# Altium integrated library Infineon_Power_MOSFET.IntLib: 1448 symbols (part 42 of 47)
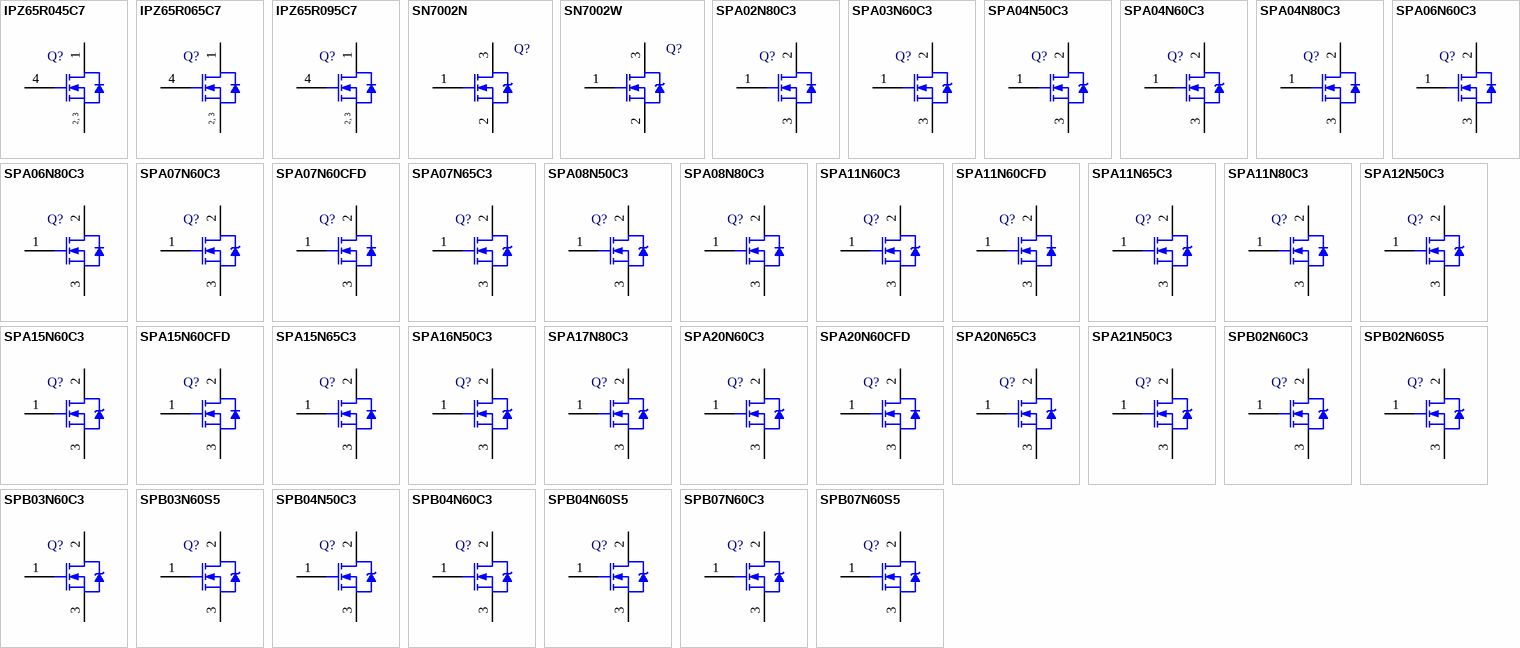
[diagram p78: symbols IPZ65R045C7 to SPB07N60S5]

## SPA07N60CFD
designator Q?
N-Channel CoolMOS Power-Transistor, 600 V VDS, 6.6 A ID, -55 to 150 degC, PG-TO220-3-31, Tube, Green; Manufacturer: Infineon; PartNumber: SPA07N60CFD; Green: TRUE; ID (max): 6.6 A; IDpuls (max): 17 A; Polarity: N; Ptot (max): 32 W; QG: 35 nC; RDS (on) (max): 700 mOhm; Rth: 3.9 K/W; RthJA (max): 62 K/W; VDS (max): 600 V; VGS(th) (max): 5 V; VGS(th) (min): 3 V; DatasheetVersion: Rev. 1.0; PackageVersion: Jan-07; PackageReference: PG-TO220-3-31; PackageDescription: 3-Pin Plastic (Green) Transistor Single Outline Package, 10.5 x 9.68 mm Body, 2.54 mm Pitch; Supplier 1: Mouser; Supplier Part Number 1: 726-SPA07N60CFD; Supplier 2: Newark; Supplier Part Number 2: 33P8194; Supplier 3: Farnell; Supplier Part Number 3: 1664093; Supplier 4: Digi-Key; Supplier Part Number 4: SPA07N60CFD-ND; Halogen-free: TRUE; Packing: Tube; RthJC (max): 3.9 K/W; Technology: CoolMOS CFD; Mounting Technology: Through Hole; ComponentLink1Description: Manufacturer URL; ComponentLink1URL: http://www.infineon.com/; ComponentLink2Description: Datasheet; ComponentLink2URL: http://www.infineon.com/dgdl/SPA07N60CFD_rev1.0.pdf?folderId=db3a304412b407950112b408e8c90004&fileId=db3a304412b407950112b42e89c249e7; ComponentLink3Description: Package Specification; ComponentLink3URL: http://www.infineon.com/dgdl/IPA093N06N3_Rev2+0.pdf?folderId=db3a30431441fb5d01148ca9f1be0e77&fileId=db3a3043284aacd8012882bf84115438
footprint INF-PG-TO220-3-31 (FM, 3-Leads, Body 10.5x4.7mm, Pitch 2.54mm)
pins: 1 GATE, 2 DRAIN, 3 SOURCE

## SPA07N65C3
designator Q?
N-Channel CoolMOS Power-Transistor, 650 V VDS, 7.3 A ID, -55 to 150 degC, PG-TO220-3-31, Tube, Green; Manufacturer: Infineon; PartNumber: SPA07N65C3; Green: TRUE; ID (max): 7.3 A; IDpuls (max): 21.9 A; Polarity: N; Ptot (max): 32 W; QG: 21 nC; RDS (on) (max): 600 mOhm; Rth: 3.9 K/W; RthJA (max): 80 K/W; VDS (max): 650 V; VGS(th) (max): 3.9 V; VGS(th) (min): 2.1 V; DatasheetVersion: Rev. 1.92; PackageVersion: Jan-07; PackageReference: PG-TO220-3-31; PackageDescription: 3-Pin Plastic (Green) Transistor Single Outline Package, 10.5 x 9.68 mm Body, 2.54 mm Pitch; Supplier 1: Mouser; Supplier Part Number 1: 726-SPA07N65C3; Supplier 2: Digi-Key; Supplier Part Number 2: SPA07N65C3IN-ND; Halogen-free: TRUE; Packing: Tube; RthJC (max): 3.9 K/W; Technology: CoolMOS C3; Mounting Technology: Through Hole; ComponentLink1Description: Manufacturer URL; ComponentLink1URL: http://www.infineon.com/; ComponentLink2Description: Datasheet; ComponentLink2URL: http://www.infineon.com/dgdl/SPP_A_I07N65C3_Rev%5B1.92.pdf?folderId=db3a3043163797a6011637d4e912003c&fileId=db3a3043163797a6011637d56b30003d; ComponentLink3Description: Package Specification; ComponentLink3URL: http://www.infineon.com/dgdl/IPA093N06N3_Rev2+0.pdf?folderId=db3a30431441fb5d01148ca9f1be0e77&fileId=db3a3043284aacd8012882bf84115438
footprint INF-PG-TO220-3-31 (FM, 3-Leads, Body 10.5x4.7mm, Pitch 2.54mm)
pins: 1 GATE, 2 DRAIN, 3 SOURCE

## SPA08N50C3
designator Q?
N-Channel CoolMOS Power-Transistor, 500 V VDS, 7.6 A ID, -55 to 150 degC, PG-TO220-3-31, Tube, Green; Manufacturer: Infineon; PartNumber: SPA08N50C3; Green: TRUE; ID (max): 7.6 A; IDpuls (max): 22.8 A; Polarity: N; Ptot (max): 32 W; QG: 32 nC; RDS (on) (max): 600 mOhm; Rth: 3.9 K/W; RthJA (max): 80 K/W; VDS (max): 500 V; VGS(th) (max): 3.9 V; VGS(th) (min): 2.1 V; DatasheetVersion: Rev. 2.91; PackageVersion: Jan-07; PackageReference: PG-TO220-3-31; PackageDescription: 3-Pin Plastic (Green) Transistor Single Outline Package, 10.5 x 9.68 mm Body, 2.54 mm Pitch; Supplier 1: Mouser; Supplier Part Number 1: 726-SPA08N50C3; Supplier 2: Newark; Supplier Part Number 2: 62M0116; Supplier 3: Farnell; Supplier Part Number 3: 1471769; Supplier 4: Digi-Key; Supplier Part Number 4: SPA08N50C3IN-ND; Halogen-free: TRUE; Packing: Tube; RthJC (max): 3.9 K/W; Technology: CoolMOS C3; Mounting Technology: Through Hole; ComponentLink1Description: Manufacturer URL; ComponentLink1URL: http://www.infineon.com/; ComponentLink2Description: Datasheet; ComponentLink2URL: http://www.infineon.com/dgdl/SPP_I_A08N50C3_Rev.2.91.pdf?folderId=db3a3043163797a6011637e7be4f0060&fileId=db3a3043163797a6011637ea8fa3006d; ComponentLink3Description: Package Specification; ComponentLink3URL: http://www.infineon.com/dgdl/IPA093N06N3_Rev2+0.pdf?folderId=db3a30431441fb5d01148ca9f1be0e77&fileId=db3a3043284aacd8012882bf84115438
footprint INF-PG-TO220-3-31 (FM, 3-Leads, Body 10.5x4.7mm, Pitch 2.54mm)
pins: 1 GATE, 2 DRAIN, 3 SOURCE

## SPA08N80C3
designator Q?
N-Channel CoolMOS Power-Transistor, 800 V VDS, 8 A ID, -55 to 150 degC, PG-TO220-3-31, Tube, Green; Manufacturer: Infineon; PartNumber: SPA08N80C3; Green: TRUE; ID (max): 8 A; IDpuls (max): 24 A; Polarity: N; Ptot (max): 40 W; QG: 45 nC; RDS (on) (max): 650 mOhm; Rth: 3.8 K/W; RthJA (max): 80 K/W; VDS (max): 800 V; VGS(th) (max): 3.9 V; VGS(th) (min): 2.1 V; DatasheetVersion: Rev. 3.1; PackageVersion: Jan-07; PackageReference: PG-TO220-3-31; PackageDescription: 3-Pin Plastic (Green) Transistor Single Outline Package, 10.5 x 9.68 mm Body, 2.54 mm Pitch; Supplier 1: Mouser; Supplier Part Number 1: 726-SPA08N80C3; Supplier 2: Newark; Supplier Part Number 2: 98K0551; Supplier 3: Farnell; Supplier Part Number 3: 1095691; Supplier 4: Digi-Key; Supplier Part Number 4: SPA08N80C3IN-ND; Halogen-free: TRUE; Packing: Tube; RthJC (max): 3.8 K/W; Technology: CoolMOS C3; Mounting Technology: Through Hole; ComponentLink1Description: Manufacturer URL; ComponentLink1URL: http://www.infineon.com/; ComponentLink2Description: Datasheet; ComponentLink2URL: http://www.infineon.com/dgdl/SPA08N80C3_rev3.1+new.pdf?folderId=db3a3043163797a6011638491238009b&fileId=db3a3043163797a6011638595c9600e0; ComponentLink3Description: Package Specification; ComponentLink3URL: http://www.infineon.com/dgdl/IPA093N06N3_Rev2+0.pdf?folderId=db3a30431441fb5d01148ca9f1be0e77&fileId=db3a3043284aacd8012882bf84115438
footprint INF-PG-TO220-3-31 (FM, 3-Leads, Body 10.5x4.7mm, Pitch 2.54mm)
pins: 1 GATE, 2 DRAIN, 3 SOURCE

## SPA11N60C3
designator Q?
N-Channel CoolMOS Power-Transistor, 600 V VDS, 11 A ID, -55 to 150 degC, PG-TO220-3-31, Tube, Green; Manufacturer: Infineon; PartNumber: SPA11N60C3; Green: TRUE; ID (max): 11 A; IDpuls (max): 33 A; Polarity: N; Ptot (max): 33 W; QG: 45 nC; RDS (on) (max): 380 mOhm; Rth: 3.8 K/W; RthJA (max): 80 K/W; VDS (max): 600 V; VGS(th) (max): 3.9 V; VGS(th) (min): 2.1 V; DatasheetVersion: Rev. 3.2; PackageVersion: Jan-07; PackageReference: PG-TO220-3-31; PackageDescription: 3-Pin Plastic (Green) Transistor Single Outline Package, 10.5 x 9.68 mm Body, 2.54 mm Pitch; Supplier 1: Mouser; Supplier Part Number 1: 726-SPA11N60C3; Supplier 2: Newark; Supplier Part Number 2: 62M0117; Supplier 3: Farnell; Supplier Part Number 3: 1471770; Supplier 4: Digi-Key; Supplier Part Number 4: SPA11N60C3IN-ND; Halogen-free: TRUE; Packing: Tube; RthJC (max): 3.8 K/W; Technology: CoolMOS C3; Mounting Technology: Through Hole; ComponentLink1Description: Manufacturer URL; ComponentLink1URL: http://www.infineon.com/; ComponentLink2Description: Datasheet; ComponentLink2URL: http://www.infineon.com/dgdl/SPP_I_A11N60C3_E8185_Rev.3.2.pdf?folderId=db3a3043163797a6011638933eda014b&fileId=db3a3043163797a6011638a2fdee01a3; ComponentLink3Description: Package Specification; ComponentLink3URL: http://www.infineon.com/dgdl/IPA093N06N3_Rev2+0.pdf?folderId=db3a30431441fb5d01148ca9f1be0e77&fileId=db3a3043284aacd8012882bf84115438
footprint INF-PG-TO220-3-31 (FM, 3-Leads, Body 10.5x4.7mm, Pitch 2.54mm)
pins: 1 GATE, 2 DRAIN, 3 SOURCE

## SPA11N60CFD
designator Q?
N-Channel CoolMOS Power-Transistor, 600 V VDS, 11 A ID, -55 to 150 degC, PG-TO220-3-31, Tube, Green; Manufacturer: Infineon; PartNumber: SPA11N60CFD; Green: TRUE; ID (max): 11 A; IDpuls (max): 28 A; Polarity: N; Ptot (max): 33 W; QG: 48 nC; RDS (on) (max): 440 mOhm; Rth: 3.8 K/W; RthJA (max): 62 K/W; VDS (max): 600 V; VGS(th) (max): 5 V; VGS(th) (min): 3 V; DatasheetVersion: Rev. 1.4; PackageVersion: Jan-07; PackageReference: PG-TO220-3-31; PackageDescription: 3-Pin Plastic (Green) Transistor Single Outline Package, 10.5 x 9.68 mm Body, 2.54 mm Pitch; Supplier 1: Mouser; Supplier Part Number 1: 726-SPA11N60CFD; Supplier 2: Newark; Supplier Part Number 2: 33P8195; Supplier 3: Farnell; Supplier Part Number 3: 1664094; Supplier 4: Digi-Key; Supplier Part Number 4: SPA11N60CFD-ND; Halogen-free: TRUE; Packing: Tube; RthJC (max): 3.8 K/W; Technology: CoolMOS CFD; Mounting Technology: Through Hole; ComponentLink1Description: Manufacturer URL; ComponentLink1URL: http://www.infineon.com/; ComponentLink2Description: Datasheet; ComponentLink2URL: http://www.infineon.com/dgdl/SPA11N60CFD_rev1.4.pdf?folderId=db3a304412b407950112b408e8c90004&fileId=db3a304412b407950112b42c0b7e4659; ComponentLink3Description: Package Specification; ComponentLink3URL: http://www.infineon.com/dgdl/IPA093N06N3_Rev2+0.pdf?folderId=db3a30431441fb5d01148ca9f1be0e77&fileId=db3a3043284aacd8012882bf84115438
footprint INF-PG-TO220-3-31 (FM, 3-Leads, Body 10.5x4.7mm, Pitch 2.54mm)
pins: 1 GATE, 2 DRAIN, 3 SOURCE

## SPA11N65C3
designator Q?
N-Channel CoolMOS Power-Transistor, 650 V VDS, 11 A ID, -55 to 150 degC, PG-TO220-3-31, Tube, Green; Manufacturer: Infineon; PartNumber: SPA11N65C3; Green: TRUE; ID (max): 11 A; IDpuls (max): 33 A; Polarity: N; Ptot (max): 33 W; QG: 45 nC; RDS (on) (max): 380 mOhm; Rth: 3.8 K/W; RthJA (max): 80 K/W; VDS (max): 650 V; VGS(th) (max): 3.9 V; VGS(th) (min): 2.1 V; DatasheetVersion: Rev. 2.91; PackageVersion: Jan-07; PackageReference: PG-TO220-3-31; PackageDescription: 3-Pin Plastic (Green) Transistor Single Outline Package, 10.5 x 9.68 mm Body, 2.54 mm Pitch; Supplier 1: Mouser; Supplier Part Number 1: 726-SPA11N65C3; Supplier 2: Newark; Supplier Part Number 2: 62M0118; Supplier 3: Farnell; Supplier Part Number 3: 1471771; Supplier 4: Digi-Key; Supplier Part Number 4: SPA11N65C3IN-ND; Halogen-free: TRUE; Packing: Tube; RthJC (max): 3.8 K/W; Technology: CoolMOS C3; Mounting Technology: Through Hole; ComponentLink1Description: Manufacturer URL; ComponentLink1URL: http://www.infineon.com/; ComponentLink2Description: Datasheet; ComponentLink2URL: http://www.infineon.com/dgdl/SPP_A_I11N65C3_Rev.2.91.pdf?folderId=db3a3043163797a6011637d4e912003c&fileId=db3a3043163797a6011637d98e5e0049; ComponentLink3Description: Package Specification; ComponentLink3URL: http://www.infineon.com/dgdl/IPA093N06N3_Rev2+0.pdf?folderId=db3a30431441fb5d01148ca9f1be0e77&fileId=db3a3043284aacd8012882bf84115438
footprint INF-PG-TO220-3-31 (FM, 3-Leads, Body 10.5x4.7mm, Pitch 2.54mm)
pins: 1 GATE, 2 DRAIN, 3 SOURCE

## SPA11N80C3
designator Q?
N-Channel CoolMOS Power-Transistor, 800 V VDS, 11 A ID, -55 to 150 degC, PG-TO220-3-31, Tube, Green; Manufacturer: Infineon; PartNumber: SPA11N80C3; Green: TRUE; ID (max): 11 A; IDpuls (max): 33 A; Polarity: N; Ptot (max): 41 W; QG: 64 nC; RDS (on) (max): 450 mOhm; Rth: 3.7 K/W; RthJA (max): 80 K/W; VDS (max): 800 V; VGS(th) (max): 3.9 V; VGS(th) (min): 2.1 V; DatasheetVersion: Rev. 2.91; PackageVersion: Jan-07; PackageReference: PG-TO220-3-31; PackageDescription: 3-Pin Plastic (Green) Transistor Single Outline Package, 10.5 x 9.68 mm Body, 2.54 mm Pitch; Supplier 1: Mouser; Supplier Part Number 1: 726-SPA11N80C3; Supplier 2: Newark; Supplier Part Number 2: 98K0552; Supplier 3: Farnell; Supplier Part Number 3: 1095692; Supplier 4: Digi-Key; Supplier Part Number 4: SPA11N80C3IN-ND; Halogen-free: TRUE; Packing: Tube; RthJC (max): 3.7 K/W; Technology: CoolMOS C3; Mounting Technology: Through Hole; ComponentLink1Description: Manufacturer URL; ComponentLink1URL: http://www.infineon.com/; ComponentLink2Description: Datasheet; ComponentLink2URL: http://www.infineon.com/dgdl/SPA11N80C3_rev2.91_a.pdf?folderId=db3a3043163797a6011638491238009b&fileId=db3a3043163797a60116385b2fcc00ec; ComponentLink3Description: Package Specification; ComponentLink3URL: http://www.infineon.com/dgdl/IPA093N06N3_Rev2+0.pdf?folderId=db3a30431441fb5d01148ca9f1be0e77&fileId=db3a3043284aacd8012882bf84115438
footprint INF-PG-TO220-3-31 (FM, 3-Leads, Body 10.5x4.7mm, Pitch 2.54mm)
pins: 1 GATE, 2 DRAIN, 3 SOURCE

## SPA12N50C3
designator Q?
N-Channel CoolMOS Power-Transistor, 500 V VDS, 11.6 A ID, -55 to 150 degC, PG-TO220-3-31, Tube, Green; Manufacturer: Infineon; PartNumber: SPA12N50C3; Green: TRUE; ID (max): 11.6 A; IDpuls (max): 34.8 A; Polarity: N; Ptot (max): 33 W; QG: 49 nC; RDS (on) (max): 380 mOhm; Rth: 3.8 K/W; RthJA (max): 80 K/W; VDS (max): 500 V; VGS(th) (max): 3.9 V; VGS(th) (min): 2.1 V; DatasheetVersion: Rev. 3.1; PackageVersion: Jan-07; PackageReference: PG-TO220-3-31; PackageDescription: 3-Pin Plastic (Green) Transistor Single Outline Package, 10.5 x 9.68 mm Body, 2.54 mm Pitch; Supplier 1: Mouser; Supplier Part Number 1: 726-SPA12N50C3; Supplier 2: Farnell; Supplier Part Number 2: 1471772; Supplier 3: Digi-Key; Supplier Part Number 3: SPA12N50C3IN-ND; Halogen-free: TRUE; Packing: Tube; RthJC (max): 3.8 K/W; Technology: CoolMOS C3; Mounting Technology: Through Hole; ComponentLink1Description: Manufacturer URL; ComponentLink1URL: http://www.infineon.com/; ComponentLink2Description: Datasheet; ComponentLink2URL: http://www.infineon.com/dgdl/SPP_I_A12N50C3_Rev.3.1.pdf?folderId=db3a3043163797a6011637e7be4f0060&fileId=db3a3043163797a6011637ecbecd0079; ComponentLink3Description: Package Specification; ComponentLink3URL: http://www.infineon.com/dgdl/IPA093N06N3_Rev2+0.pdf?folderId=db3a30431441fb5d01148ca9f1be0e77&fileId=db3a3043284aacd8012882bf84115438
footprint INF-PG-TO220-3-31 (FM, 3-Leads, Body 10.5x4.7mm, Pitch 2.54mm)
pins: 1 GATE, 2 DRAIN, 3 SOURCE

## SPA15N60C3
designator Q?
N-Channel CoolMOS Power-Transistor, 600 V VDS, 15 A ID, -55 to 150 degC, PG-TO220-3-31, Tube, Green; Manufacturer: Infineon; PartNumber: SPA15N60C3; Green: TRUE; ID (max): 15 A; IDpuls (max): 45 A; Polarity: N; Ptot (max): 34 W; QG: 63 nC; RDS (on) (max): 280 mOhm; Rth: 3.7 K/W; RthJA (max): 80 K/W; VDS (max): 600 V; VGS(th) (max): 3.9 V; VGS(th) (min): 2.1 V; DatasheetVersion: Rev. 3.2; PackageVersion: Jan-07; PackageReference: PG-TO220-3-31; PackageDescription: 3-Pin Plastic (Green) Transistor Single Outline Package, 10.5 x 9.68 mm Body, 2.54 mm Pitch; Supplier 1: Mouser; Supplier Part Number 1: 726-SPA15N60C3; Supplier 2: Farnell; Supplier Part Number 2: 1471773; Supplier 3: Digi-Key; Supplier Part Number 3: SPA15N60C3IN-ND; Halogen-free: TRUE; Packing: Tube; RthJC (max): 3.7 K/W; Technology: CoolMOS C3; Mounting Technology: Through Hole; ComponentLink1Description: Manufacturer URL; ComponentLink1URL: http://www.infineon.com/; ComponentLink2Description: Datasheet; ComponentLink2URL: http://www.infineon.com/dgdl/SPP_I_A15N60C3_Rev%5B1%5D.3.2+new.pdf?folderId=db3a3043163797a6011638933eda014b&fileId=db3a3043163797a6011638a530bb01af; ComponentLink3Description: Package Specification; ComponentLink3URL: http://www.infineon.com/dgdl/IPA093N06N3_Rev2+0.pdf?folderId=db3a30431441fb5d01148ca9f1be0e77&fileId=db3a3043284aacd8012882bf84115438
footprint INF-PG-TO220-3-31 (FM, 3-Leads, Body 10.5x4.7mm, Pitch 2.54mm)
pins: 1 GATE, 2 DRAIN, 3 SOURCE

## SPA15N60CFD
designator Q?
N-Channel CoolMOS Power-Transistor, 600 V VDS, 13.4 A ID, -55 to 150 degC, PG-TO220-3-31, Tube, Green; Manufacturer: Infineon; PartNumber: SPA15N60CFD; Green: TRUE; ID (max): 13.4 A; IDpuls (max): 33 A; Polarity: N; Ptot (max): 34 W; QG: 63 nC; RDS (on) (max): 330 mOhm; Rth: 3.7 K/W; RthJA (max): 62 K/W; VDS (max): 600 V; VGS(th) (max): 5 V; VGS(th) (min): 3 V; DatasheetVersion: Rev. 1.0; PackageVersion: Jan-07; PackageReference: PG-TO220-3-31; PackageDescription: 3-Pin Plastic (Green) Transistor Single Outline Package, 10.5 x 9.68 mm Body, 2.54 mm Pitch; Supplier 1: Mouser; Supplier Part Number 1: 726-SPA15N60CFD; Supplier 2: Digi-Key; Supplier Part Number 2: SPA15N60CFD-ND; Halogen-free: TRUE; Packing: Tube; RthJC (max): 3.7 K/W; Technology: CoolMOS CFD; Mounting Technology: Through Hole; ComponentLink1Description: Manufacturer URL; ComponentLink1URL: http://www.infineon.com/; ComponentLink2Description: Datasheet; ComponentLink2URL: http://www.infineon.com/dgdl/SPA15N60CFD_rev1.0.pdf?folderId=db3a304412b407950112b408e8c90004&fileId=db3a304412b407950112b42e96c549f7; ComponentLink3Description: Package Specification; ComponentLink3URL: http://www.infineon.com/dgdl/IPA093N06N3_Rev2+0.pdf?folderId=db3a30431441fb5d01148ca9f1be0e77&fileId=db3a3043284aacd8012882bf84115438
footprint INF-PG-TO220-3-31 (FM, 3-Leads, Body 10.5x4.7mm, Pitch 2.54mm)
pins: 1 GATE, 2 DRAIN, 3 SOURCE

## SPA15N65C3
designator Q?
N-Channel CoolMOS Power-Transistor, 650 V VDS, 15 A ID, -55 to 150 degC, PG-TO220-3-31, Tube, Green; Manufacturer: Infineon; PartNumber: SPA15N65C3; Green: TRUE; ID (max): 15 A; IDpuls (max): 45 A; Polarity: N; Ptot (max): 34 W; QG: 63 nC; RDS (on) (max): 280 mOhm; Rth: 3.7 K/W; RthJA (max): 62 K/W; VDS (max): 650 V; VGS(th) (max): 3.9 V; VGS(th) (min): 2.1 V; DatasheetVersion: Rev. 2.0; PackageVersion: Jan-07; PackageReference: PG-TO220-3-31; PackageDescription: 3-Pin Plastic (Green) Transistor Single Outline Package, 10.5 x 9.68 mm Body, 2.54 mm Pitch; Supplier 1: Mouser; Supplier Part Number 1: 726-SPA15N65C3; Supplier 2: Digi-Key; Supplier Part Number 2: SPA15N65C3-ND; Halogen-free: TRUE; Packing: Tube; RthJC (max): 3.7 K/W; Technology: CoolMOS C3; Mounting Technology: Through Hole; ComponentLink1Description: Manufacturer URL; ComponentLink1URL: http://www.infineon.com/; ComponentLink2Description: Datasheet; ComponentLink2URL: http://www.infineon.com/dgdl/SPA15N65C3_rev2.0.pdf?folderId=db3a304412b407950112b408e8c90004&fileId=db3a304412b407950112b42eb47e4a23; ComponentLink3Description: Package Specification; ComponentLink3URL: http://www.infineon.com/dgdl/IPA093N06N3_Rev2+0.pdf?folderId=db3a30431441fb5d01148ca9f1be0e77&fileId=db3a3043284aacd8012882bf84115438
footprint INF-PG-TO220-3-31 (FM, 3-Leads, Body 10.5x4.7mm, Pitch 2.54mm)
pins: 1 GATE, 2 DRAIN, 3 SOURCE

## SPA16N50C3
designator Q?
N-Channel CoolMOS Power-Transistor, 500 V VDS, 16 A ID, -55 to 150 degC, PG-TO220-3-31, Tube, Green; Manufacturer: Infineon; PartNumber: SPA16N50C3; Green: TRUE; ID (max): 16 A; IDpuls (max): 48 A; Polarity: N; Ptot (max): 34 W; QG: 66 nC; RDS (on) (max): 280 mOhm; Rth: 3.7 K/W; RthJA (max): 80 K/W; VDS (max): 500 V; VGS(th) (max): 3.9 V; VGS(th) (min): 2.1 V; DatasheetVersion: Rev. 3.2; PackageVersion: Jan-07; PackageReference: PG-TO220-3-31; PackageDescription: 3-Pin Plastic (Green) Transistor Single Outline Package, 10.5 x 9.68 mm Body, 2.54 mm Pitch; Supplier 1: Mouser; Supplier Part Number 1: 726-SPA16N50C3; Supplier 2: Newark; Supplier Part Number 2: 47W3750; Supplier 3: Farnell; Supplier Part Number 3: 2212873; Supplier 4: Digi-Key; Supplier Part Number 4: SPA16N50C3IN-ND; Halogen-free: TRUE; Packing: Tube; RthJC (max): 3.7 K/W; Technology: CoolMOS C3; Mounting Technology: Through Hole; ComponentLink1Description: Manufacturer URL; ComponentLink1URL: http://www.infineon.com/; ComponentLink2Description: Datasheet; ComponentLink2URL: http://www.infineon.com/dgdl/SPP_I_A16N50C3_Rev%5B1%5D.3.2+new.pdf?folderId=db3a3043163797a6011637e7be4f0060&fileId=db3a3043163797a6011637e882e70061; ComponentLink3Description: Package Specification; ComponentLink3URL: http://www.infineon.com/dgdl/IPA093N06N3_Rev2+0.pdf?folderId=db3a30431441fb5d01148ca9f1be0e77&fileId=db3a3043284aacd8012882bf84115438
footprint INF-PG-TO220-3-31 (FM, 3-Leads, Body 10.5x4.7mm, Pitch 2.54mm)
pins: 1 GATE, 2 DRAIN, 3 SOURCE

## SPA17N80C3
designator Q?
N-Channel CoolMOS Power-Transistor, 800 V VDS, 17 A ID, -55 to 150 degC, PG-TO220-3-31, Tube, Green; Manufacturer: Infineon; PartNumber: SPA17N80C3; Green: TRUE; ID (max): 17 A; IDpuls (max): 51 A; Polarity: N; Ptot (max): 42 W; QG: 91 nC; RDS (on) (max): 290 mOhm; Rth: 3.6 K/W; RthJA (max): 80 K/W; VDS (max): 800 V; VGS(th) (max): 3.9 V; VGS(th) (min): 2.1 V; DatasheetVersion: Rev. 2.7; PackageVersion: Jan-07; PackageReference: PG-TO220-3-31; PackageDescription: 3-Pin Plastic (Green) Transistor Single Outline Package, 10.5 x 9.68 mm Body, 2.54 mm Pitch; Supplier 1: Mouser; Supplier Part Number 1: 726-SPA17N80C3; Supplier 2: Newark; Supplier Part Number 2: 98K0553; Supplier 3: Farnell; Supplier Part Number 3: 1095693; Supplier 4: Digi-Key; Supplier Part Number 4: SPA17N80C3IN-ND; Halogen-free: TRUE; Packing: Tube; RthJC (max): 3.6 K/W; Technology: CoolMOS C3; Mounting Technology: Through Hole; ComponentLink1Description: Manufacturer URL; ComponentLink1URL: http://www.infineon.com/; ComponentLink2Description: Datasheet; ComponentLink2URL: http://www.infineon.com/dgdl/SPP_A17N80C3.Rev.2.7.pdf?folderId=db3a3043163797a6011638491238009b&fileId=db3a3043163797a60116385ea62e0101; ComponentLink3Description: Package Specification; ComponentLink3URL: http://www.infineon.com/dgdl/IPA093N06N3_Rev2+0.pdf?folderId=db3a30431441fb5d01148ca9f1be0e77&fileId=db3a3043284aacd8012882bf84115438
footprint INF-PG-TO220-3-31 (FM, 3-Leads, Body 10.5x4.7mm, Pitch 2.54mm)
pins: 1 GATE, 2 DRAIN, 3 SOURCE

## SPA20N60C3
designator Q?
N-Channel CoolMOS Power-Transistor, 600 V VDS, 20.7 A ID, -55 to 150 degC, PG-TO220-3-31, Tube, Green; Manufacturer: Infineon; PartNumber: SPA20N60C3; Green: TRUE; ID (max): 20.7 A; IDpuls (max): 62.1 A; Polarity: N; Ptot (max): 34.5 W; QG: 87 nC; RDS (on) (max): 190 mOhm; Rth: 3.6 K/W; RthJA (max): 80 K/W; VDS (max): 600 V; VGS(th) (max): 3.9 V; VGS(th) (min): 2.1 V; DatasheetVersion: Rev. 3.1; PackageVersion: Jan-07; PackageReference: PG-TO220-3-31; PackageDescription: 3-Pin Plastic (Green) Transistor Single Outline Package, 10.5 x 9.68 mm Body, 2.54 mm Pitch; Supplier 1: Mouser; Supplier Part Number 1: 726-SPA20N60C3; Supplier 2: Newark; Supplier Part Number 2: 16M4990; Supplier 3: Farnell; Supplier Part Number 3: 1156420; Supplier 4: Digi-Key; Supplier Part Number 4: SPA20N60C3IN-ND; Halogen-free: TRUE; Packing: Tube; RthJC (max): 3.6 K/W; Technology: CoolMOS C3; Mounting Technology: Through Hole; ComponentLink1Description: Manufacturer URL; ComponentLink1URL: http://www.infineon.com/; ComponentLink2Description: Datasheet; ComponentLink2URL: http://www.infineon.com/dgdl/SPP_I_A20N60C3_Rev3.1.pdf?folderId=db3a3043163797a6011637d4bae7003b&fileId=db3a304318f3fe290119090054e32a20; ComponentLink3Description: Package Specification; ComponentLink3URL: http://www.infineon.com/dgdl/IPA093N06N3_Rev2+0.pdf?folderId=db3a30431441fb5d01148ca9f1be0e77&fileId=db3a3043284aacd8012882bf84115438
footprint INF-PG-TO220-3-31 (FM, 3-Leads, Body 10.5x4.7mm, Pitch 2.54mm)
pins: 1 GATE, 2 DRAIN, 3 SOURCE

## SPA20N60CFD
designator Q?
N-Channel CoolMOS Power-Transistor, 600 V VDS, 20.7 A ID, -55 to 150 degC, PG-TO220-3-31, Tube, Green; Manufacturer: Infineon; PartNumber: SPA20N60CFD; Green: TRUE; ID (max): 20.7 A; IDpuls (max): 52 A; Polarity: N; Ptot (max): 35 W; QG: 95 nC; RDS (on) (max): 220 mOhm; Rth: 3.6 K/W; RthJA (max): 62 K/W; VDS (max): 600 V; VGS(th) (max): 5 V; VGS(th) (min): 3 V; DatasheetVersion: Rev. 1.4; PackageVersion: Jan-07; PackageReference: PG-TO220-3-31; PackageDescription: 3-Pin Plastic (Green) Transistor Single Outline Package, 10.5 x 9.68 mm Body, 2.54 mm Pitch; Supplier 1: Mouser; Supplier Part Number 1: 726-SPA20N60CFD; Supplier 2: Newark; Supplier Part Number 2: 62M0122; Supplier 3: Farnell; Supplier Part Number 3: 1471775; Supplier 4: Digi-Key; Supplier Part Number 4: SPA20N60CFD-ND; Halogen-free: TRUE; Packing: Tube; RthJC (max): 3.6 K/W; Technology: CoolMOS CFD; Mounting Technology: Through Hole; ComponentLink1Description: Manufacturer URL; ComponentLink1URL: http://www.infineon.com/; ComponentLink2Description: Datasheet; ComponentLink2URL: http://www.infineon.com/dgdl/SPA20N60CFD_rev1+4.pdf?folderId=db3a304412b407950112b408e8c90004&fileId=db3a304412b407950112b42e4a594998; ComponentLink3Description: Package Specification; ComponentLink3URL: http://www.infineon.com/dgdl/IPA093N06N3_Rev2+0.pdf?folderId=db3a30431441fb5d01148ca9f1be0e77&fileId=db3a3043284aacd8012882bf84115438
footprint INF-PG-TO220-3-31 (FM, 3-Leads, Body 10.5x4.7mm, Pitch 2.54mm)
pins: 1 GATE, 2 DRAIN, 3 SOURCE

## SPA20N65C3
designator Q?
N-Channel CoolMOS Power-Transistor, 650 V VDS, 20.7 A ID, -55 to150 degC, PG-TO220-3-31, Tube, Green; Manufacturer: Infineon; PartNumber: SPA20N65C3; Green: TRUE; ID (max): 20.7 A; IDpuls (max): 62.1 A; Polarity: N; Ptot (max): 34.5 W; QG: 87 nC; RDS (on) (max): 190 mOhm; Rth: 3.6 K/W; RthJA (max): 80 K/W; VDS (max): 650 V; VGS(th) (max): 3.9 V; VGS(th) (min): 2.1 V; DatasheetVersion: Rev. 3.0; PackageVersion: Jan-07; PackageReference: PG-TO220-3-31; PackageDescription: 3-Pin Plastic (Green) Transistor Single Outline Package, 10.5 x 9.68 mm Body, 2.54 mm Pitch; Supplier 1: Mouser; Supplier Part Number 1: 726-SPA20N65C3; Supplier 2: Digi-Key; Supplier Part Number 2: SPA20N65C3IN-ND; Halogen-free: TRUE; Packing: Tube; RthJC (max): 3.6 K/W; Technology: CoolMOS C3; Mounting Technology: Through Hole; ComponentLink1Description: Manufacturer URL; ComponentLink1URL: http://www.infineon.com/; ComponentLink2Description: Datasheet; ComponentLink2URL: http://www.infineon.com/dgdl/SPP_A_I20N65C3_Rev.3.0.pdf?folderId=db3a304314dca389011536a0a5821528&fileId=db3a304314dca389011536a41121152a; ComponentLink3Description: Package Specification; ComponentLink3URL: http://www.infineon.com/dgdl/IPA093N06N3_Rev2+0.pdf?folderId=db3a30431441fb5d01148ca9f1be0e77&fileId=db3a3043284aacd8012882bf84115438
footprint INF-PG-TO220-3-31 (FM, 3-Leads, Body 10.5x4.7mm, Pitch 2.54mm)
pins: 1 GATE, 2 DRAIN, 3 SOURCE

## SPA21N50C3
designator Q?
N-Channel CoolMOS Power-Transistor, 500 V VDS, 21 A ID, -55 to 150 degC, PG-TO220-3-31, Tube, Green; Manufacturer: Infineon; PartNumber: SPA21N50C3; Green: TRUE; ID (max): 21 A; IDpuls (max): 63 A; Polarity: N; Ptot (max): 34.5 W; QG: 95 nC; RDS (on) (max): 190 mOhm; Rth: 3.6 K/W; RthJA (max): 80 K/W; VDS (max): 500 V; VGS(th) (max): 3.9 V; VGS(th) (min): 2.1 V; DatasheetVersion: Rev. 3.2; PackageVersion: Jan-07; PackageReference: PG-TO220-3-31; PackageDescription: 3-Pin Plastic (Green) Transistor Single Outline Package, 10.5 x 9.68 mm Body, 2.54 mm Pitch; Supplier 1: Mouser; Supplier Part Number 1: 726-SPA21N50C3; Supplier 2: Farnell; Supplier Part Number 2: 1471778; Supplier 3: Digi-Key; Supplier Part Number 3: SPA21N50C3IN-ND; Halogen-free: TRUE; Packing: Tube; RthJC (max): 3.6 K/W; Technology: CoolMOS C3; Mounting Technology: Through Hole; ComponentLink1Description: Manufacturer URL; ComponentLink1URL: http://www.infineon.com/; ComponentLink2Description: Datasheet; ComponentLink2URL: http://www.infineon.com/dgdl/SPP_I_A21N50C3_Rev%5B1%5D.3.2+new.pdf?folderId=db3a3043163797a6011637e7be4f0060&fileId=db3a3043163797a6011637eeb9340085; ComponentLink3Description: Package Specification; ComponentLink3URL: http://www.infineon.com/dgdl/IPA093N06N3_Rev2+0.pdf?folderId=db3a30431441fb5d01148ca9f1be0e77&fileId=db3a3043284aacd8012882bf84115438
footprint INF-PG-TO220-3-31 (FM, 3-Leads, Body 10.5x4.7mm, Pitch 2.54mm)
pins: 1 GATE, 2 DRAIN, 3 SOURCE

## SPB02N60C3
designator Q?
N-Channel CoolMOS Power-Transistor, 600 V VDS, 1.8 A ID, -55 to 150 degC, PG-TO263-3-2, Reel, Green; Manufacturer: Infineon; PartNumber: SPB02N60C3; Green: TRUE; ID (max): 1.8 A; IDpuls (max): 5.4 A; Polarity: N; Ptot (max): 25 W; QG: 9.5 nC; RDS (on) (max): 3,000 mOhm; Rth: 5 K/W; RthJA (max): 62 K/W; VDS (max): 600 V; VGS(th) (max): 3.9 V; VGS(th) (min): 2.1 V; DatasheetVersion: Rev. 2.4; PackageVersion: Rev. 01, 08/2007; PackageReference: PG-TO263-3-2; PackageDescription: 3-Pin Plastic (Green) Transistor Single Outline Package, 10.1 x 8.98 mm Body, 2.54 mm Pitch; Supplier 1: Mouser; Supplier Part Number 1: 726-SPB02N60C3; Supplier 2: Digi-Key; Supplier Part Number 2: SPB02N60C3INTR-ND; Halogen-free: TRUE; Packing: Reel; RthJC (max): 5 K/W; Technology: CoolMOS C3; Mounting Technology: Surface Mount; ComponentLink1Description: Manufacturer URL; ComponentLink1URL: http://www.infineon.com/; ComponentLink2Description: Datasheet; ComponentLink2URL: http://www.infineon.com/dgdl/SPB02N60C3_Rev.2.4.pdf?folderId=db3a304412b407950112b408e8c90004&fileId=db3a304412b407950112b42e153f494d; ComponentLink3Description: Package Specification; ComponentLink3URL: http://www.infineon.com/dgdl/SPB80P06P+G_Rev+1.6_.pdf?folderId=db3a304412b407950112b408e8c90004&fileId=db3a304412b407950112b42add964408
footprint INF-PG-TO263-3-2_A_N (DPAK, 3-Leads, Body 10.1x8.98mm, Pitch 2.54mm, IPC Medium Density)
footprint INF-PG-TO263-3-2_A_L (DPAK, 3-Leads, Body 10.1x8.98mm, Pitch 2.54mm, IPC High Density)
footprint INF-PG-TO263-3-2_A_M (DPAK, 3-Leads, Body 10.1x8.98mm, Pitch 2.54mm, IPC Low Density)
pins: 1 GATE, 2 DRAIN, 3 SOURCE

## SPB02N60S5
designator Q?
Cool MOS Power Transistor, 600 V VDS, 1.8 A ID, PG-TO263-3-2, Reel, Green; Manufacturer: Infineon; PartNumber: SPB02N60S5; Green: TRUE; ID (max): 1.8 A; Polarity: N; RDS (on) (max): 3,000 mOhm; VDS (max): 600 V; DatasheetVersion: Rev. 2.4; PackageVersion: Rev. 01, 08/2007; PackageReference: PG-TO263-3-2; PackageDescription: 3-Pin Plastic (Green) Transistor Single Outline Package, 10.1 x 8.98 mm Body, 2.54 mm Pitch; Supplier 1: Digi-Key; Supplier Part Number 1: SPB02N60S5INTR-ND; Supplier 2: Digi-Key; Supplier Part Number 2: SPB02N60S5INCT-ND; Supplier 3: Digi-Key; Supplier Part Number 3: SPB02N60S5INDKR-ND; Halogen-free: TRUE; Packing: Reel; Mounting Technology: Surface Mount; ComponentLink1Description: Manufacturer URL; ComponentLink1URL: http://www.infineon.com/; ComponentLink2Description: Datasheet; ComponentLink2URL: http://www.infineon.com/dgdl/SPB02N60S5_Rev.2.4.pdf?folderId=db3a304412b407950112b408e8c90004&fileId=db3a304412b407950112b42c983b4732; ComponentLink3Description: Package Specification; ComponentLink3URL: http://www.infineon.com/dgdl/SPB80P06P+G_Rev+1.6_.pdf?folderId=db3a304412b407950112b408e8c90004&fileId=db3a304412b407950112b42add964408
footprint INF-PG-TO263-3-2_A_N (DPAK, 3-Leads, Body 10.1x8.98mm, Pitch 2.54mm, IPC Medium Density)
footprint INF-PG-TO263-3-2_A_L (DPAK, 3-Leads, Body 10.1x8.98mm, Pitch 2.54mm, IPC High Density)
footprint INF-PG-TO263-3-2_A_M (DPAK, 3-Leads, Body 10.1x8.98mm, Pitch 2.54mm, IPC Low Density)
pins: 1 GATE, 2 DRAIN, 3 SOURCE

## SPB03N60C3
designator Q?
N-Channel CoolMOS Power-Transistor, 600 V VDS, 3.2 A ID, -55 to 150 degC, PG-TO263-3-2, Reel, Green; Manufacturer: Infineon; PartNumber: SPB03N60C3; Green: TRUE; ID (max): 3.2 A; IDpuls (max): 9.6 A; Polarity: N; Ptot (max): 38 W; QG: 13 nC; RDS (on) (max): 1,400 mOhm; Rth: 3.3 K/W; RthJA (max): 62 K/W; VDS (max): 600 V; VGS(th) (max): 3.9 V; VGS(th) (min): 2.1 V; DatasheetVersion: Rev. 2.5; PackageVersion: Rev. 01, 08/2007; PackageReference: PG-TO263-3-2; PackageDescription: 3-Pin Plastic (Green) Transistor Single Outline Package, 10.1 x 8.98 mm Body, 2.54 mm Pitch; Supplier 1: Mouser; Supplier Part Number 1: 726-SPB03N60C3; Supplier 2: Newark; Supplier Part Number 2: 62M0126; Supplier 3: Farnell; Supplier Part Number 3: 1471780; Supplier 4: Digi-Key; Supplier Part Number 4: SPB03N60C3INTR-ND; Supplier 5: Digi-Key; Supplier Part Number 5: SPB03N60C3INCT-ND; Supplier 6: Digi-Key; Supplier Part Number 6: SPB03N60C3INDKR-ND; Halogen-free: TRUE; Packing: Reel; RthJC (max): 3.3 K/W; Technology: CoolMOS C3; Mounting Technology: Surface Mount; ComponentLink1Description: Manufacturer URL; ComponentLink1URL: http://www.infineon.com/; ComponentLink2Description: Datasheet; ComponentLink2URL: http://www.infineon.com/dgdl/SPB03N60C3_Rev.2.5.pdf?folderId=db3a304412b407950112b408e8c90004&fileId=db3a304412b407950112b42e517e49a0; ComponentLink3Description: Package Specification; ComponentLink3URL: http://www.infineon.com/dgdl/SPB80P06P+G_Rev+1.6_.pdf?folderId=db3a304412b407950112b408e8c90004&fileId=db3a304412b407950112b42add964408
footprint INF-PG-TO263-3-2_A_N (DPAK, 3-Leads, Body 10.1x8.98mm, Pitch 2.54mm, IPC Medium Density)
footprint INF-PG-TO263-3-2_A_L (DPAK, 3-Leads, Body 10.1x8.98mm, Pitch 2.54mm, IPC High Density)
footprint INF-PG-TO263-3-2_A_M (DPAK, 3-Leads, Body 10.1x8.98mm, Pitch 2.54mm, IPC Low Density)
pins: 1 GATE, 2 DRAIN, 3 SOURCE

## SPB03N60S5
designator Q?
Cool MOS Power Transistor, 600 V VDS, 3.2 A ID, PG-TO263-3-2, Reel, Green; Manufacturer: Infineon; PartNumber: SPB03N60S5; Green: TRUE; ID (max): 3.2 A; Polarity: N; RDS (on) (max): 1,400 mOhm; VDS (max): 600 V; DatasheetVersion: Rev. 2.4; PackageVersion: Rev. 01, 08/2007; PackageReference: PG-TO263-3-2; PackageDescription: 3-Pin Plastic (Green) Transistor Single Outline Package, 10.1 x 8.98 mm Body, 2.54 mm Pitch; Supplier 1: Digi-Key; Supplier Part Number 1: SPB03N60S5INTR-ND; Supplier 2: Digi-Key; Supplier Part Number 2: SPB03N60S5INCT-ND; Supplier 3: Digi-Key; Supplier Part Number 3: SPB03N60S5INDKR-ND; Halogen-free: TRUE; Packing: Reel; Mounting Technology: Surface Mount; ComponentLink1Description: Manufacturer URL; ComponentLink1URL: http://www.infineon.com/; ComponentLink2Description: Datasheet; ComponentLink2URL: http://www.infineon.com/dgdl/SPB03N60S5_Rev.2.4.pdf?folderId=db3a304412b407950112b408e8c90004&fileId=db3a304412b407950112b42c9b234736; ComponentLink3Description: Package Specification; ComponentLink3URL: http://www.infineon.com/dgdl/SPB80P06P+G_Rev+1.6_.pdf?folderId=db3a304412b407950112b408e8c90004&fileId=db3a304412b407950112b42add964408
footprint INF-PG-TO263-3-2_A_N (DPAK, 3-Leads, Body 10.1x8.98mm, Pitch 2.54mm, IPC Medium Density)
footprint INF-PG-TO263-3-2_A_L (DPAK, 3-Leads, Body 10.1x8.98mm, Pitch 2.54mm, IPC High Density)
footprint INF-PG-TO263-3-2_A_M (DPAK, 3-Leads, Body 10.1x8.98mm, Pitch 2.54mm, IPC Low Density)
pins: 1 GATE, 2 DRAIN, 3 SOURCE

## SPB04N50C3
designator Q?
N-Channel CoolMOS Power-Transistor, 500 V VDS, 4.5 A ID, -55 to 150 degC, PG-TO263-3-2_A, Reel, Green; Manufacturer: Infineon; PartNumber: SPB04N50C3; Green: TRUE; ID (max): 4.5 A; IDpuls (max): 13.5 A; Polarity: N; Ptot (max): 50 W; QG: 22 nC; RDS (on) (max): 950 mOhm; Rth: 2.5 K/W; RthJA (max): 62 K/W; VDS (max): 500 V; VGS(th) (max): 3.9 V; VGS(th) (min): 2.1 V; DatasheetVersion: Rev. 2.3; PackageVersion: Rev. 01, 08/2007; PackageReference: PG-TO263-3-2; PackageDescription: 3-Pin Plastic (Green) Transistor Single Outline Package, 10.1 x 8.98 mm Body, 2.54 mm Pitch; Supplier 1: Mouser; Supplier Part Number 1: 726-SPB04N50C3; Supplier 2: Digi-Key; Supplier Part Number 2: SPB04N50C3INTR-ND; Supplier 3: Digi-Key; Supplier Part Number 3: SPB04N50C3INCT-ND; Supplier 4: Digi-Key; Supplier Part Number 4: SPB04N50C3INDKR-ND; Halogen-free: TRUE; Packing: Reel; RthJC (max): 2.5 K/W; Technology: CoolMOS C3; Mounting Technology: Surface Mount; ComponentLink1Description: Manufacturer URL; ComponentLink1URL: http://www.infineon.com/; ComponentLink2Description: Datasheet; ComponentLink2URL: http://www.infineon.com/dgdl/SPB04N50C3_Rev.2.3.pdf?folderId=db3a304412b407950112b408e8c90004&fileId=db3a304412b407950112b42d2983481a; ComponentLink3Description: Package Specification; ComponentLink3URL: http://www.infineon.com/dgdl/SPB80P06P+G_Rev+1.6_.pdf?folderId=db3a304412b407950112b408e8c90004&fileId=db3a304412b407950112b42add964408
footprint INF-PG-TO263-3-2_A_N (DPAK, 3-Leads, Body 10.1x8.98mm, Pitch 2.54mm, IPC Medium Density)
footprint INF-PG-TO263-3-2_A_L (DPAK, 3-Leads, Body 10.1x8.98mm, Pitch 2.54mm, IPC High Density)
footprint INF-PG-TO263-3-2_A_M (DPAK, 3-Leads, Body 10.1x8.98mm, Pitch 2.54mm, IPC Low Density)
pins: 1 GATE, 2 DRAIN, 3 SOURCE

## SPB04N60C3
designator Q?
N-Channel CoolMOS Power-Transistor, 600 V VDS, 4.5 A ID, -55 to 150 degC, PG-TO263-3-2, Reel, Green; Manufacturer: Infineon; PartNumber: SPB04N60C3; Green: TRUE; ID (max): 4.5 A; IDpuls (max): 13.5 A; Polarity: N; Ptot (max): 50 W; QG: 19 nC; RDS (on) (max): 950 mOhm; Rth: 2.5 K/W; RthJA (max): 62 K/W; VDS (max): 600 V; VGS(th) (max): 3.9 V; VGS(th) (min): 2.1 V; DatasheetVersion: Rev. 2.5; PackageVersion: Rev. 01, 08/2007; PackageReference: PG-TO263-3-2; PackageDescription: 3-Pin Plastic (Green) Transistor Single Outline Package, 10.1 x 8.98 mm Body, 2.54 mm Pitch; Supplier 1: Mouser; Supplier Part Number 1: 726-SPB04N60C3; Supplier 2: Digi-Key; Supplier Part Number 2: SPB04N60C3INTR-ND; Supplier 3: Digi-Key; Supplier Part Number 3: SPB04N60C3INCT-ND; Supplier 4: Digi-Key; Supplier Part Number 4: SPB04N60C3INDKR-ND; Halogen-free: TRUE; Packing: Reel; RthJC (max): 2.5 K/W; Technology: CoolMOS C3; Mounting Technology: Surface Mount; ComponentLink1Description: Manufacturer URL; ComponentLink1URL: http://www.infineon.com/; ComponentLink2Description: Datasheet; ComponentLink2URL: http://www.infineon.com/dgdl/SPB04N60C3_Rev2.5.pdf?folderId=db3a304412b407950112b408e8c90004&fileId=db3a304412b407950112b42ddb2c4904; ComponentLink3Description: Package Specification; ComponentLink3URL: http://www.infineon.com/dgdl/SPB80P06P+G_Rev+1.6_.pdf?folderId=db3a304412b407950112b408e8c90004&fileId=db3a304412b407950112b42add964408
footprint INF-PG-TO263-3-2_A_N (DPAK, 3-Leads, Body 10.1x8.98mm, Pitch 2.54mm, IPC Medium Density)
footprint INF-PG-TO263-3-2_A_L (DPAK, 3-Leads, Body 10.1x8.98mm, Pitch 2.54mm, IPC High Density)
footprint INF-PG-TO263-3-2_A_M (DPAK, 3-Leads, Body 10.1x8.98mm, Pitch 2.54mm, IPC Low Density)
pins: 1 GATE, 2 DRAIN, 3 SOURCE

## SPB04N60S5
designator Q?
N-Channel CoolMOS Power-Transistor, 600 V VDS, 4.5 A ID, -55 to 150 degC, PG-TO263-3-2, Reel, Green; Manufacturer: Infineon; PartNumber: SPB04N60S5; Green: TRUE; ID (max): 4.5 A; IDpuls (max): 9 A; Polarity: N; Ptot (max): 50 W; QG: 17.6 nC; RDS (on) (max): 950 mOhm; Rth: 2.5 K/W; RthJA (max): 62 K/W; VDS (max): 600 V; VGS(th) (max): 5.5 V; VGS(th) (min): 3.5 V; DatasheetVersion: Rev. 2.4; PackageVersion: Rev. 01, 08/2007; PackageReference: PG-TO263-3-2; PackageDescription: 3-Pin Plastic (Green) Transistor Single Outline Package, 10.1 x 8.98 mm Body, 2.54 mm Pitch; Supplier 1: Mouser; Supplier Part Number 1: 726-SPB04N60S5; Supplier 2: Digi-Key; Supplier Part Number 2: SPB04N60S5INTR-ND; Supplier 3: Digi-Key; Supplier Part Number 3: SPB04N60S5INCT-ND; Supplier 4: Digi-Key; Supplier Part Number 4: SPB04N60S5INDKR-ND; Halogen-free: TRUE; Packing: Reel; RthJC (max): 2.5 K/W; Technology: CoolMOS S5; Mounting Technology: Surface Mount; ComponentLink1Description: Manufacturer URL; ComponentLink1URL: http://www.infineon.com/; ComponentLink2Description: Datasheet; ComponentLink2URL: http://www.infineon.com/dgdl/SPB04N60S5_Rev.2.4.pdf?folderId=db3a304412b407950112b408e8c90004&fileId=db3a304412b407950112b42c9e11473a; ComponentLink3Description: Package Specification; ComponentLink3URL: http://www.infineon.com/dgdl/SPB80P06P+G_Rev+1.6_.pdf?folderId=db3a304412b407950112b408e8c90004&fileId=db3a304412b407950112b42add964408
footprint INF-PG-TO263-3-2_A_N (DPAK, 3-Leads, Body 10.1x8.98mm, Pitch 2.54mm, IPC Medium Density)
footprint INF-PG-TO263-3-2_A_L (DPAK, 3-Leads, Body 10.1x8.98mm, Pitch 2.54mm, IPC High Density)
footprint INF-PG-TO263-3-2_A_M (DPAK, 3-Leads, Body 10.1x8.98mm, Pitch 2.54mm, IPC Low Density)
pins: 1 GATE, 2 DRAIN, 3 SOURCE

## SPB07N60C3
designator Q?
N-Channel CoolMOS Power-Transistor, 600 V VDS, 7.3 A ID, -55 to 150 degC, PG-TO263-3-2, Reel, Green; Manufacturer: Infineon; PartNumber: SPB07N60C3; Green: TRUE; ID (max): 7.3 A; IDpuls (max): 21.9 A; Polarity: N; Ptot (max): 83 W; QG: 21 nC; RDS (on) (max): 600 mOhm; Rth: 1.5 K/W; RthJA (max): 62 K/W; VDS (max): 600 V; VGS(th) (max): 3.9 V; VGS(th) (min): 2.1 V; DatasheetVersion: Rev. 2.5; PackageVersion: Rev. 01, 08/2007; PackageReference: PG-TO263-3-2; PackageDescription: 3-Pin Plastic (Green) Transistor Single Outline Package, 10.1 x 8.98 mm Body, 2.54 mm Pitch; Supplier 1: Mouser; Supplier Part Number 1: 726-SPB07N60C3; Supplier 2: Digi-Key; Supplier Part Number 2: SPB07N60C3INTR-ND; Supplier 3: Digi-Key; Supplier Part Number 3: SPB07N60C3INCT-ND; Supplier 4: Digi-Key; Supplier Part Number 4: SPB07N60C3INDKR-ND; Halogen-free: TRUE; Packing: Reel; RthJC (max): 1.5 K/W; Technology: CoolMOS C3; Mounting Technology: Surface Mount; ComponentLink1Description: Manufacturer URL; ComponentLink1URL: http://www.infineon.com/; ComponentLink2Description: Datasheet; ComponentLink2URL: http://www.infineon.com/dgdl/SPB07N60C3_Rev.2.5.pdf?folderId=db3a304412b407950112b408e8c90004&fileId=db3a304412b407950112b42df065491f; ComponentLink3Description: Package Specification; ComponentLink3URL: http://www.infineon.com/dgdl/SPB80P06P+G_Rev+1.6_.pdf?folderId=db3a304412b407950112b408e8c90004&fileId=db3a304412b407950112b42add964408
footprint INF-PG-TO263-3-2_A_N (DPAK, 3-Leads, Body 10.1x8.98mm, Pitch 2.54mm, IPC Medium Density)
footprint INF-PG-TO263-3-2_A_L (DPAK, 3-Leads, Body 10.1x8.98mm, Pitch 2.54mm, IPC High Density)
footprint INF-PG-TO263-3-2_A_M (DPAK, 3-Leads, Body 10.1x8.98mm, Pitch 2.54mm, IPC Low Density)
pins: 1 GATE, 2 DRAIN, 3 SOURCE

## SPB07N60S5
designator Q?
Cool MOS Power Transistor, 600 V VDS, 7.3 A ID, PG-TO263-3-2, Reel, Green; Manufacturer: Infineon; PartNumber: SPB07N60S5; Green: TRUE; ID (max): 7.3 A; Polarity: N; RDS (on) (max): 600 mOhm; VDS (max): 600 V; DatasheetVersion: Rev. 2.3; PackageVersion: Rev. 01, 08/2007; PackageReference: PG-TO263-3-2; PackageDescription: 3-Pin Plastic (Green) Transistor Single Outline Package, 10.1 x 8.98 mm Body, 2.54 mm Pitch; Supplier 1: Mouser; Supplier Part Number 1: 726-SPB07N60S5; Supplier 2: Digi-Key; Supplier Part Number 2: SPB07N60S5INTR-ND; Supplier 3: Digi-Key; Supplier Part Number 3: SPB07N60S5INCT-ND; Supplier 4: Digi-Key; Supplier Part Number 4: SPB07N60S5INDKR-ND; Halogen-free: TRUE; Packing: Reel; Mounting Technology: Surface Mount; ComponentLink1Description: Manufacturer URL; ComponentLink1URL: http://www.infineon.com/; ComponentLink2Description: Datasheet; ComponentLink2URL: http://www.infineon.com/dgdl/SPB07N60S5_Rev.2.3.pdf?folderId=db3a304412b407950112b408e8c90004&fileId=db3a304412b407950112b42d57bd485b; ComponentLink3Description: Package Specification; ComponentLink3URL: http://www.infineon.com/dgdl/SPB80P06P+G_Rev+1.6_.pdf?folderId=db3a304412b407950112b408e8c90004&fileId=db3a304412b407950112b42add964408
footprint INF-PG-TO263-3-2_A_N (DPAK, 3-Leads, Body 10.1x8.98mm, Pitch 2.54mm, IPC Medium Density)
footprint INF-PG-TO263-3-2_A_L (DPAK, 3-Leads, Body 10.1x8.98mm, Pitch 2.54mm, IPC High Density)
footprint INF-PG-TO263-3-2_A_M (DPAK, 3-Leads, Body 10.1x8.98mm, Pitch 2.54mm, IPC Low Density)
pins: 1 GATE, 2 DRAIN, 3 SOURCE

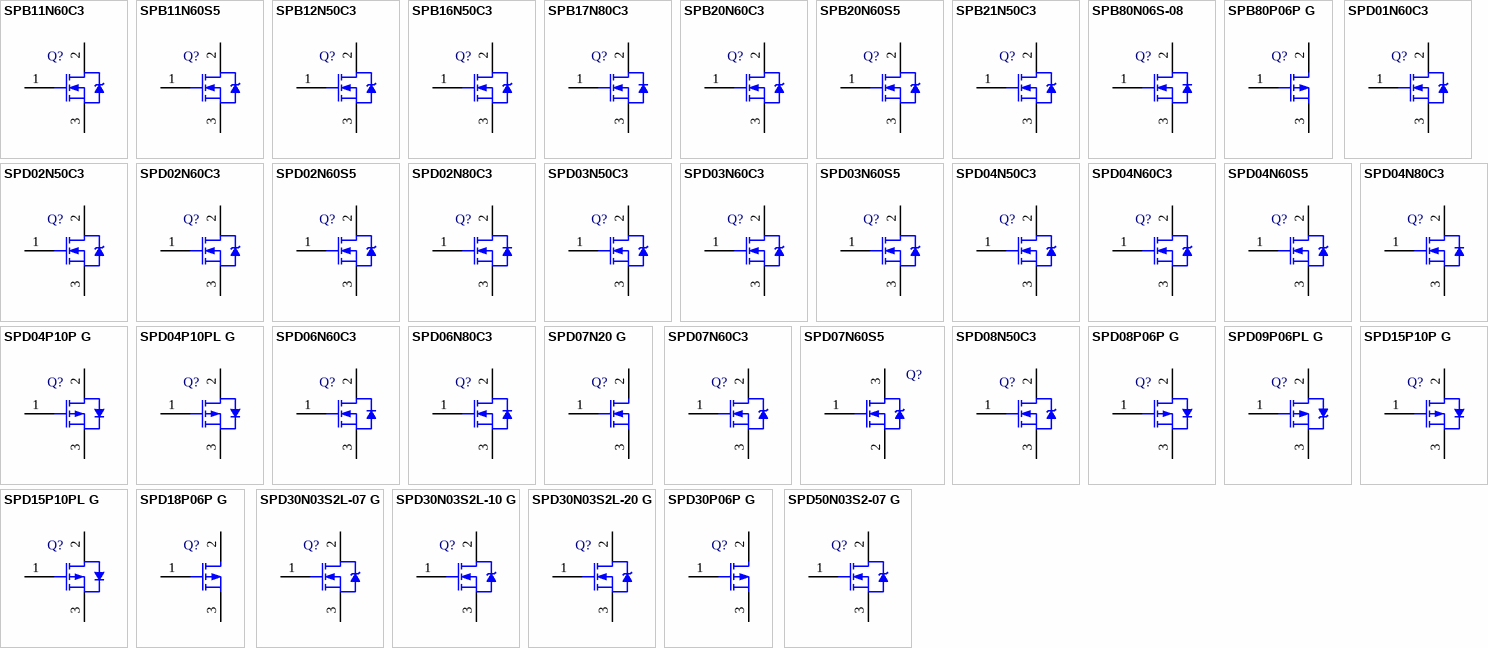
[diagram p34: symbols SPB11N60C3 to SPD50N03S2-07 G]

## SPB11N60C3
designator Q?
N-Channel CoolMOS Power-Transistor, 600 V VDS, 11 A ID, -55 to 150 degC, PG-TO263-3-2, Reel, Green; Manufacturer: Infineon; PartNumber: SPB11N60C3; Green: TRUE; ID (max): 11 A; IDpuls (max): 33 A; Polarity: N; Ptot (max): 125 W; QG: 45 nC; RDS (on) (max): 380 mOhm; Rth: 1 K/W; RthJA (max): 62 K/W; VDS (max): 600 V; VGS(th) (max): 3.9 V; VGS(th) (min): 2.1 V; DatasheetVersion: Rev. 2.6; PackageVersion: Jul-09; PackageReference: PG-TO263-3-2; PackageDescription: 3-Pin Plastic (Green) Transistor Single Outline Package, 10 x 9.25 mm Body, 2.54 mm Pitch; Supplier 1: Mouser; Supplier Part Number 1: 726-SPB11N60C3; Supplier 2: Newark; Supplier Part Number 2: 47W3752; Supplier 3: Farnell; Supplier Part Number 3: 2212858; Supplier 4: Digi-Key; Supplier Part Number 4: SPB11N60C3INTR-ND; Supplier 5: Digi-Key; Supplier Part Number 5: SPB11N60C3INCT-ND; Supplier 6: Digi-Key; Supplier Part Number 6: SPB11N60C3INDKR-ND; Halogen-free: TRUE; Packing: Reel; RthJC (max): 1 K/W; Technology: CoolMOS C3; Mounting Technology: Surface Mount; ComponentLink1Description: Manufacturer URL; ComponentLink1URL: http://www.infineon.com/; ComponentLink2Description: Datasheet; ComponentLink2URL: http://www.infineon.com/dgdl/SPB11N60C3_Rev+2+6.pdf?folderId=db3a304412b407950112b408e8c90004&fileId=db3a304412b407950112b42dde5d4908; ComponentLink3Description: Package Specification; ComponentLink3URL: http://www.infineon.com/dgdl/BTS141TC_DS_10.pdf?folderId=db3a3043163797a6011667aa084c0e01&fileId=db3a3043242ebc9e01242f43f58b003e&location=en.Products.Automotive_ICs.Smart_High-_and_Low-Side_Switches.HITFET___TEMPFET__-_Smart_Low-Side_Switches.DATASHEET.BTS141TC_DS_10.pdf
footprint INF-PG-TO263-3-2_N (DPAK, 3-Leads, Body 10x9.25mm, Pitch 2.54mm, IPC Medium Density)
footprint INF-PG-TO263-3-2_L (DPAK, 3-Leads, Body 10x9.25mm, Pitch 2.54mm, IPC High Density)
footprint INF-PG-TO263-3-2_M (DPAK, 3-Leads, Body 10x9.25mm, Pitch 2.54mm, IPC Low Density)
pins: 1 GATE, 2 DRAIN, 3 SOURCE

## SPB11N60S5
designator Q?
N-Channel CoolMOS Power-Transistor, 600 V VDS, 11 A ID, -55 to 150 degC, PG-TO263-3-2, Reel, Green; Manufacturer: Infineon; PartNumber: SPB11N60S5; Green: TRUE; ID (max): 11 A; IDpuls (max): 22 A; Polarity: N; Ptot (max): 125 W; QG: 41.5 nC; RDS (on) (max): 380 mOhm; Rth: 1 K/W; RthJA (max): 62 K/W; VDS (max): 600 V; VGS(th) (max): 5.5 V; VGS(th) (min): 3.5 V; DatasheetVersion: Rev. 2.3; PackageVersion: Rev. 01, 08/2007; PackageReference: PG-TO263-3-2; PackageDescription: 3-Pin Plastic (Green) Transistor Single Outline Package, 10.1 x 8.98 mm Body, 2.54 mm Pitch; Supplier 1: Mouser; Supplier Part Number 1: 726-SPB11N60S5; Supplier 2: Digi-Key; Supplier Part Number 2: SPB11N60S5INTR-ND; Supplier 3: Digi-Key; Supplier Part Number 3: SPB11N60S5INCT-ND; Supplier 4: Digi-Key; Supplier Part Number 4: SPB11N60S5INDKR-ND; Halogen-free: TRUE; Packing: Reel; RthJC (max): 1 K/W; Technology: CoolMOS S5; Mounting Technology: Surface Mount; ComponentLink1Description: Manufacturer URL; ComponentLink1URL: http://www.infineon.com/; ComponentLink2Description: Datasheet; ComponentLink2URL: http://www.infineon.com/dgdl/SPB11N60S5_Rev.2.3.pdf?folderId=db3a304412b407950112b408e8c90004&fileId=db3a304412b407950112b42e587249ab; ComponentLink3Description: Package Specification; ComponentLink3URL: http://www.infineon.com/dgdl/SPB80P06P+G_Rev+1.6_.pdf?folderId=db3a304412b407950112b408e8c90004&fileId=db3a304412b407950112b42add964408
footprint INF-PG-TO263-3-2_A_N (DPAK, 3-Leads, Body 10.1x8.98mm, Pitch 2.54mm, IPC Medium Density)
footprint INF-PG-TO263-3-2_A_L (DPAK, 3-Leads, Body 10.1x8.98mm, Pitch 2.54mm, IPC High Density)
footprint INF-PG-TO263-3-2_A_M (DPAK, 3-Leads, Body 10.1x8.98mm, Pitch 2.54mm, IPC Low Density)
pins: 1 GATE, 2 DRAIN, 3 SOURCE

## SPB12N50C3
designator Q?
N-Channel CoolMOS Power-Transistor, 500 V VDS, 11.6 A ID, -55 to 150 degC, PG-TO263-3-2, Reel, Green; Manufacturer: Infineon; PartNumber: SPB12N50C3; Green: TRUE; ID (max): 11.6 A; IDpuls (max): 34.8 A; Polarity: N; Ptot (max): 125 W; QG: 49 nC; RDS (on) (max): 380 mOhm; Rth: 1 K/W; RthJA (max): 62 K/W; VDS (max): 500 V; VGS(th) (max): 3.9 V; VGS(th) (min): 2.1 V; DatasheetVersion: Rev. 2.4; PackageVersion: Rev. 01, 08/2007; PackageReference: PG-TO263-3-2; PackageDescription: 3-Pin Plastic (Green) Transistor Single Outline Package, 10.1 x 8.98 mm Body, 2.54 mm Pitch; Supplier 1: Mouser; Supplier Part Number 1: 726-SPB12N50C3; Supplier 2: Digi-Key; Supplier Part Number 2: SPB12N50C3INTR-ND; Supplier 3: Digi-Key; Supplier Part Number 3: SPB12N50C3INCT-ND; Supplier 4: Digi-Key; Supplier Part Number 4: SPB12N50C3INDKR-ND; Halogen-free: TRUE; Packing: Reel; RthJC (max): 1 K/W; Technology: CoolMOS C3; Mounting Technology: Surface Mount; ComponentLink1Description: Manufacturer URL; ComponentLink1URL: http://www.infineon.com/; ComponentLink2Description: Datasheet; ComponentLink2URL: http://www.infineon.com/dgdl/SPB12N50C3_Rev.2.4.pdf?folderId=db3a304412b407950112b408e8c90004&fileId=db3a304412b407950112b42cee0447d4; ComponentLink3Description: Package Specification; ComponentLink3URL: http://www.infineon.com/dgdl/SPB80P06P+G_Rev+1.6_.pdf?folderId=db3a304412b407950112b408e8c90004&fileId=db3a304412b407950112b42add964408
footprint INF-PG-TO263-3-2_A_N (DPAK, 3-Leads, Body 10.1x8.98mm, Pitch 2.54mm, IPC Medium Density)
footprint INF-PG-TO263-3-2_A_L (DPAK, 3-Leads, Body 10.1x8.98mm, Pitch 2.54mm, IPC High Density)
footprint INF-PG-TO263-3-2_A_M (DPAK, 3-Leads, Body 10.1x8.98mm, Pitch 2.54mm, IPC Low Density)
pins: 1 GATE, 2 DRAIN, 3 SOURCE

## SPB16N50C3
designator Q?
N-Channel CoolMOS Power-Transistor, 500 V VDS, 16 A ID, -55 to 150 degC, PG-TO263-3-2_A, Reel, Green; Manufacturer: Infineon; PartNumber: SPB16N50C3; Green: TRUE; ID (max): 16 A; IDpuls (max): 48 A; Polarity: N; Ptot (max): 160 W; QG: 66 nC; RDS (on) (max): 280 mOhm; Rth: 0.78 K/W; RthJA (max): 62 K/W; VDS (max): 500 V; VGS(th) (max): 3.9 V; VGS(th) (min): 2.1 V; DatasheetVersion: Rev. 2.4; PackageVersion: Rev. 01, 08/2007; PackageReference: PG-TO263-3-2; PackageDescription: 3-Pin Plastic (Green) Transistor Single Outline Package, 10.1 x 8.98 mm Body, 2.54 mm Pitch; Supplier 1: Mouser; Supplier Part Number 1: 726-SPB16N50C3; Supplier 2: Digi-Key; Supplier Part Number 2: SPB16N50C3INTR-ND; Supplier 3: Digi-Key; Supplier Part Number 3: SPB16N50C3INCT-ND; Supplier 4: Digi-Key; Supplier Part Number 4: SPB16N50C3INDKR-ND; Halogen-free: TRUE; Packing: Reel; RthJC (max): 0.78 K/W; Technology: CoolMOS C3; Mounting Technology: Surface Mount; ComponentLink1Description: Manufacturer URL; ComponentLink1URL: http://www.infineon.com/; ComponentLink2Description: Datasheet; ComponentLink2URL: http://www.infineon.com/dgdl/SPB16N50C3_Rev.2.4.pdf?folderId=db3a304412b407950112b408e8c90004&fileId=db3a304412b407950112b42d040147ec; ComponentLink3Description: Package Specification; ComponentLink3URL: http://www.infineon.com/dgdl/SPB80P06P+G_Rev+1.6_.pdf?folderId=db3a304412b407950112b408e8c90004&fileId=db3a304412b407950112b42add964408
footprint INF-PG-TO263-3-2_A_N (DPAK, 3-Leads, Body 10.1x8.98mm, Pitch 2.54mm, IPC Medium Density)
footprint INF-PG-TO263-3-2_A_L (DPAK, 3-Leads, Body 10.1x8.98mm, Pitch 2.54mm, IPC High Density)
footprint INF-PG-TO263-3-2_A_M (DPAK, 3-Leads, Body 10.1x8.98mm, Pitch 2.54mm, IPC Low Density)
pins: 1 GATE, 2 DRAIN, 3 SOURCE